# Altium footprint library 常用元件封装.PCBLIB: 164 footprints (part 2 of 11)
Each footprint in its own frame and in the unit in brackets; x right, y up, seen from the top. Pads: shape width x height; smd on the part's side, far side on the other; paste and mask are expansions set on the pad; w line width, h text height; cw(c..) or ccw(c..) is an arc to the next point about the centre after c.
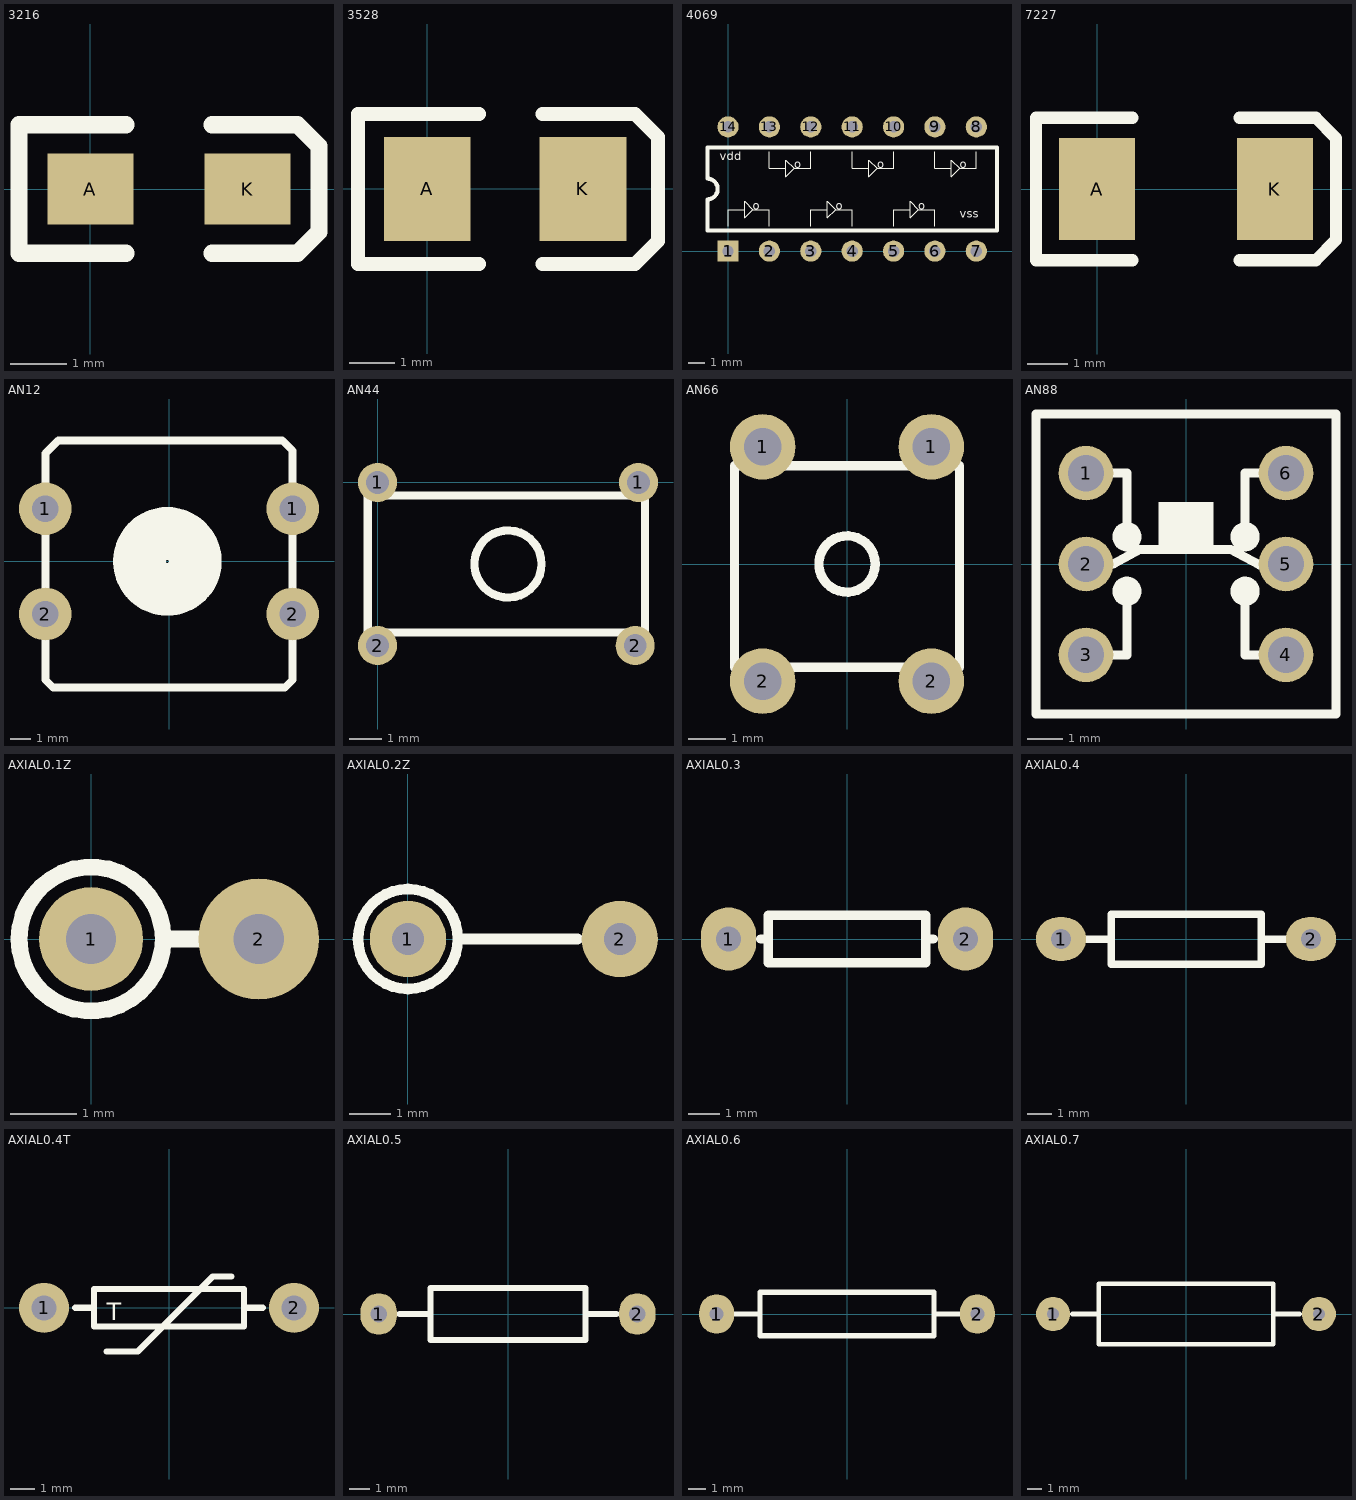
[diagram p1: the footprints below, top view; thin cyan lines are the x and y axes]

## 3216 [mil]
pads (2):
  rect 60x50 smd: A(0,0) K(110,0)
TopOverlay:
  lines w12: 25,-45 -50,-45 -50,45 25,45 ; 85,-45 145,-45 160,-30 160,30 145,45 85,45

## 3528 [mil]
pads (2):
  rect 75x90 smd: A(0,0) K(135,0)
TopOverlay:
  lines w12: 45,-65 -60,-65 -60,65 45,65 ; 100,-65 180,-65 200,-45 200,45 180,65 100,65

## 4069 [mm]
pads (14):
  rect 1.3x1.3 hole 0.7: 1(0,0)
  round 1.3 hole 0.7: 2(2.54,0) 3(5.08,0) 4(7.62,0) 5(10.16,0) 6(12.7,0) 7(15.24,0) 8(15.24,7.62) 9(12.7,7.62) 10(10.16,7.62) 11(7.62,7.62) 12(5.08,7.62) 13(2.54,7.62) 14(0,7.62)
TopOverlay:
  lines w0.051: 0,1.524 0,2.54 0.508,2.54 1.016,2.54 ; 2.54,1.524 2.54,2.54 1.524,2.54 ; 2.54,6.096 2.54,5.08 3.048,5.08 3.556,5.08 ; 5.08,1.524 5.08,2.54 5.588,2.54 6.096,2.54 ; 5.08,6.096 5.08,5.08 4.064,5.08 ; 7.62,1.524 7.62,2.54 6.604,2.54 ; 7.62,6.096 7.62,5.08 8.128,5.08 8.636,5.08 ; 10.16,1.524 10.16,2.54 10.668,2.54 11.176,2.54 ; 10.16,6.096 10.16,5.08 9.144,5.08 ; 12.7,1.524 12.7,2.54 11.684,2.54 ; 12.7,6.096 12.7,5.08 13.208,5.08 13.716,5.08 ; 15.24,6.096 15.24,5.08 14.224,5.08 ; 1.524,2.54 1.016,3.048 1.016,2.032 1.524,2.54 ; 4.064,5.08 3.556,5.588 3.556,4.572 4.064,5.08 ; 6.604,2.54 6.096,3.048 6.096,2.032 6.604,2.54 ; 9.144,5.08 8.636,5.588 8.636,4.572 9.144,5.08 ; 11.684,2.54 11.176,3.048 11.176,2.032 11.684,2.54 ; 14.224,5.08 13.716,5.588 13.716,4.572 14.224,5.08
  lines w0.254: -1.27,1.27 -1.27,3.175 ccw(c-1.27,3.81) -1.27,4.445 -1.27,6.35 16.51,6.35 16.51,1.27 -1.27,1.27
  text "o" at 1.524,2.54 h0.51
  text "o" at 6.604,2.54 h0.51
  text "o" at 11.684,2.54 h0.51
  text "o" at 14.224,5.08 h0.51
  text "o" at 9.144,5.08 h0.51
  text "o" at 4.064,5.08 h0.51
  text "vdd" at -0.508,5.588 h0.51
  text "vss" at 14.224,2.032 h0.51

## 7227 [mil]
pads (2):
  rect 75x100 smd: A(0,0) K(175,0)
TopOverlay:
  lines w12: 35,-70 -60,-70 -60,70 35,70 ; 140,-70 215,-70 235,-50 235,50 215,70 140,70

## AN12 [mil]
pads (4):
  round 100 hole 50: 1(-235,100) 1(235,100) 2(-235,-100) 2(235,-100)
TopOverlay:
  circle w100: c-3.15,0 r53.15
  lines w15: -235,-225 -220,-240 220,-240 235,-225 235,210 215,230 -210,230 -235,205 -235,-225

## AN44 [mm]
pads (4):
  round 1.2 hole 0.7: 1(0,0) 1(8,0) 2(0,-5) 2(7.9,-5)
TopOverlay:
  circle w0.254: c4,-2.5 r1.03
  lines w0.254: -0.3,-4.6 -0.3,-0.4 8.2,-0.4 8.2,-4.6 -0.3,-4.6

## AN66 [mil]
pads (4):
  round 70 hole 40: 1(-90,125) 1(90,125) 2(-90,-125) 2(90,-125)
TopOverlay:
  circle w10: c0,0 r30
  lines w10: -120,-110 -120,105 120,105 120,-110 -120,-110

## AN88 [mil]
pads (6):
  round 60 hole 40: 1(-110,100) 2(-110,0) 3(-110,-100) 4(110,-100) 5(110,0) 6(110,100)
TopOverlay:
  circle w18: c-65,-30 r7.07
  circle w18: c65,-30 r7.07
  circle w18: c65,30 r7.07
  circle w18: c-65,30 r7.07
  rectangle: -30,16 30,68
  lines w10: -110,-100 -65,-100 -65,-40 ; -110,0 -80,0 -51,16 49,16 81,-1 109,-1 110,0 ; -110,100 -65,100 -65,30 ; 65,-40 65,-100 110,-100 ; 65,40 65,100 110,100 ; -165,-165 165,-165 165,165 -165,165 -165,-165

## AXIAL0.1Z [mil]
pads (2):
  round 62 hole 30: 1(0,0)
  round 72 hole 30: 2(100,0)
TopOverlay:
  circle w10: c0,0 r43.01
  lines w10: 45,0 70,0

## AXIAL0.2Z [mil]
pads (2):
  round 72 hole 30: 1(0,0) 2(200,0)
TopOverlay:
  circle w10: c0,0 r47.17
  lines w10: 50,0 160,0

## AXIAL0.3 [mil]
pads (2):
  oval 70x80 hole 32: 1(-150,0) 2(150,0)
TopOverlay:
  lines w12: -109,0 -100,0 ; 109,0 100,0 ; 100,0 100,-30 -100,-30 -100,30 100,30 100,0

## AXIAL0.4 [mil]
pads (2):
  oval 80x70 hole 32: 1(-200,0) 2(200,0)
TopOverlay:
  lines w12: -160,0 -120,0 ; 120,0 160,0 ; -120,-40 -120,40 120,40 120,-40 -120,-40

## AXIAL0.4T [mil]
pads (2):
  round 80 hole 40: 1(-200,0) 2(200,0)
TopOverlay:
  lines w10: -150,0 -120,0 ; -100,-70 -50,-70 70,50 100,50 ; 120,0 150,0 ; -120,-30 -120,30 120,30 120,-30 -120,-30
  text "T" at -100,-20 h28

## AXIAL0.5 [mil]
pads (2):
  oval 70x80 hole 32: 1(-250,0) 2(250,0)
TopOverlay:
  lines w12: -210,0 -150,0 ; 150,0 210,0 ; -150,-50 -150,50 150,50 150,-50 -150,-50

## AXIAL0.6 [mil]
pads (2):
  oval 80x90 hole 32: 1(-300,0) 2(300,0)
TopOverlay:
  lines w12: -260,0 -200,0 ; 200,0 260,0 ; -200,-50 200,-50 200,50 -200,50 -200,-50

## AXIAL0.7 [mil]
pads (2):
  round 90 hole 32: 1(-350,0) 2(350,0)
TopOverlay:
  lines w12: -300,0 -230,0 ; 230,0 300,0 ; -230,-80 -230,80 230,80 230,-80 -230,-80